# EAGLE library part STSPIN250 (library U-ST-STSPIN250-Brushed-DC-controller (no EPAD))
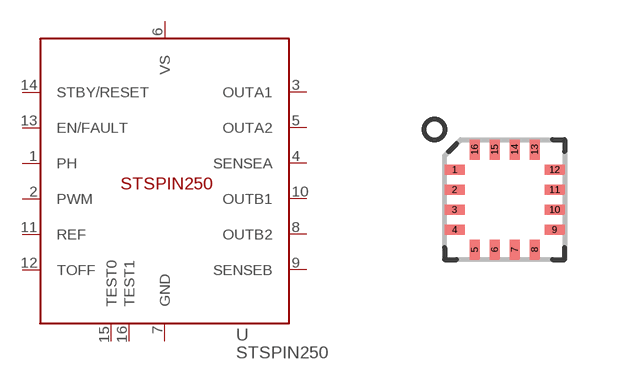
[diagram p0: symbol with the pads of VFQFPN; footprint VFQFPN]

Designator prefix U

## STSPIN250  [VFQFPN]
1  PH  in
2  PWM  in
3  OUTA1  out
4  SENSEA  out
5  OUTA2  out
6  VS  pwr
7  GND  pwr
8  OUTB2  out
9  SENSEB  out
10  OUTB1  out
11  REF  pas
12  TOFF  pas
13  EN/FAULT
14  STBY/RESET
15  TEST0
16  TEST1

## Footprint VFQFPN (pad centres in mm)
smd 0.5 x 0.25: 1 -1.25,0.75; 2 -1.25,0.25; 3 -1.25,-0.25; 4 -1.25,-0.75; 9 1.25,-0.75; 10 1.25,-0.25; 11 1.25,0.25; 12 1.25,0.75
smd 0.25 x 0.5: 5 -0.75,-1.25; 6 -0.25,-1.25; 7 0.25,-1.25; 8 0.75,-1.25; 13 0.75,1.25; 14 0.25,1.25; 15 -0.25,1.25; 16 -0.75,1.25